# EAGLE library part LTC1983 (library lolomolo)
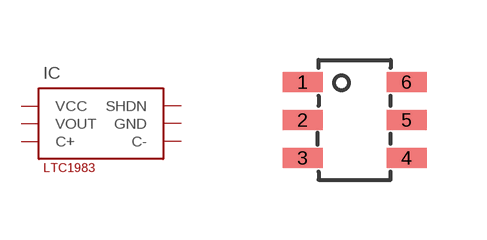
[diagram p20: symbol with the pads of TSOT23-6; footprint TSOT23-6]

Designator prefix IC

## LTC1983  [TSOT23-6]
1  VCC
2  VOUT
3  C+
4  C-
5  GND
6  SHDN

## Footprint TSOT23-6 (pad centres in mm)
smd 1 x 0.5: 1 -1.27,1.27; 2 -1.27,0.32; 3 -1.27,-0.63; 4 1.33,-0.63; 5 1.33,0.32; 6 1.33,1.27